# EAGLE library part 691415520006 (library WR-TBL Spring Clamp)
WR-TBL Serie 4155 - 5.08 mm Screwless 45° Entry KIND PROPERTIES Pitch 5.08 mm MATERIAL PROPERTIES Insulator Material PA66 Insulator Flammability Rating UL94 V-0 Contact Material INOX Steel Contact Type Stamped Wire Guard Material Copper Alloy GENERAL INFORMATION Operating Temperature -30 up to +120 °C Compliance ROHS & Reach ELECTRICAL PROPERTIES IR UL 10 A IR VDE 10 A Working Voltage [UL] 300 V (AC) Working Voltage [VDE] 250 V (AC) Withstanding Voltage [UL] 1600 V (AC) Withstanding Voltage [VDE] 2000 V (AC) Contact Resistance 20 mΩ Wire Properties Solid Wire Section (AWG) 16 to 22 (AWG) Solid Wire Section (Metric) 1.31 to 0.326 (mm²) Stranded Wire Section (AWG) 18 to 22 (AWG) Stranded Wire Section (Metric) 0.823 to 0.326 (mm²) CERTIFICATION UL Approval E150931 VDE Approval 40021374 Packaging Properties Packaging Box <https://www.we-online.com/catalog/media/o32963v209%20Family_WR-TBL4_Series4155.jpg> Details see: https://www.we-online.com/catalog/en/TBL_5_08_4155_SCREWLESS_45-DEGREE_ENTRY_69141552000x/ Updated by Ella Wu 2019-12-31 2019(C) Wurth Elektronik
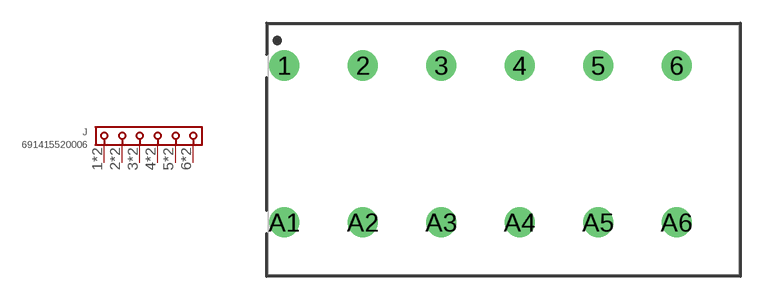
[diagram p151: symbol with the pads of 691415520006; footprint 691415520006]

Designator prefix J

## 691415520006 (DATASHEET-URL: https://www.we-online.com/redexpert/spec/691415520006?ae; IR-UL: 10A; IR-VDE: 10A; MOUNT: THT; PART-NUMBER: 691415520006; PINS: 6; PITCH: 5.08mm; TYPE: 45°; VALUE: 691415520006; WIRE: 18 to 22 (AWG) 0.823 to 0.326 (mm²); WORKING-VOLTAGE-UL: 300V (AC); WORKING-VOLTAGE-VDE: 250V (AC))  [691415520006]
1  1  pas
2  2  pas
3  3  pas
4  4  pas
5  5  pas
6  6  pas
A1  1  pas
A2  2  pas
A3  3  pas
A4  4  pas
A5  5  pas
A6  6  pas

## Footprint 691415520006 (pad centres in mm)
WR-TBL Serie 4155 - 5.08 mm Screwless 45° Entry Max Height = 13mm , Pitch 5.08mm , 6pins
drill 1.3: 1 -12.7,5.08; 2 -7.62,5.08; 3 -2.54,5.08; 4 2.54,5.08; 5 7.62,5.08; 6 12.7,5.08; A1 -12.7,-5.08; A2 -7.62,-5.08; A3 -2.54,-5.08; A4 2.54,-5.08; A5 7.62,-5.08; A6 12.7,-5.08